# Altium footprint library YaoPCB.PCBLIB: 415 footprints (part 25 of 26)
Each footprint in its own frame and in the unit in brackets; x right, y up, seen from the top. Pads: shape width x height; smd on the part's side, far side on the other; paste and mask are expansions set on the pad; w line width, h text height; cw(c..) or ccw(c..) is an arc to the next point about the centre after c.
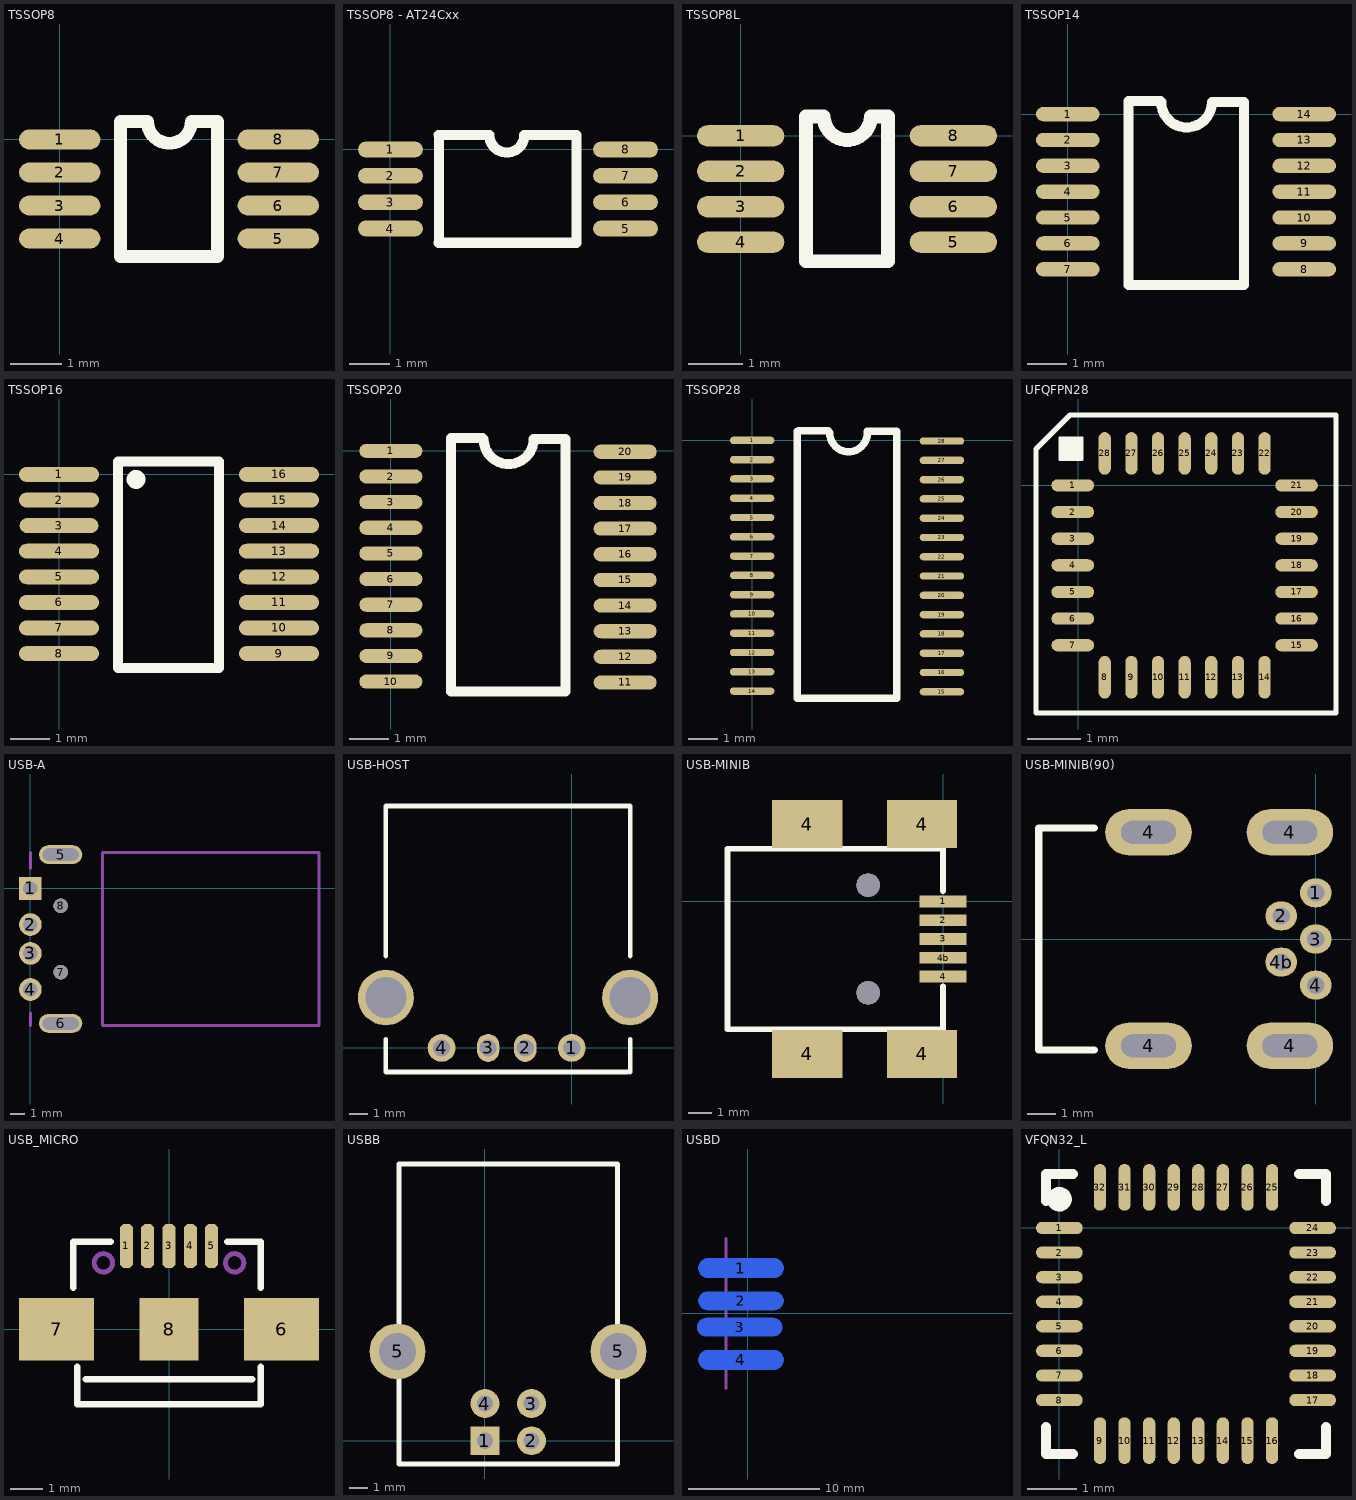
[diagram p24: the footprints below, top view; thin cyan lines are the x and y axes]

## TSSOP8 [mm]
pads (8):
  oval 1.6x0.39 smd: 1(0,0) 2(0,-0.65) 3(0,-1.3) 4(0,-1.95) 5(4.3,-1.95) 6(4.3,-1.3) 7(4.3,-0.65) 8(4.3,0)
TopOverlay:
  lines w0.254: 1.194,-2.3 3.1,-2.3 3.1,0.356 ; 1.194,0.356 1.702,0.356 ; 1.2,-2.3 1.2,0.356 ; 1.727,0.356 ccw(c2.159,0.356) 2.591,0.356 3.099,0.356

## TSSOP8 - AT24Cxx [mm]
pads (8):
  oval 1.6x0.39 smd: 1(0,0) 2(0,-0.65) 3(0,-1.3) 4(0,-1.95) 5(5.8,-1.95) 6(5.8,-1.3) 7(5.8,-0.65) 8(5.8,0)
TopOverlay:
  lines w0.254: 1.194,-2.3 4.59,-2.3 4.59,0.356 3.304,0.356 cw(c2.872,0.356) 2.44,0.356 1.194,0.356 ; 1.2,-2.3 1.2,0.356

## TSSOP8L [mm]
pads (8):
  oval 1.6x0.39 smd: 1(0,0) 2(0,-0.65) 3(0,-1.3) 4(0,-1.95) 5(3.9,-1.95) 6(3.9,-1.3) 7(3.9,-0.65) 8(3.9,0)
TopOverlay:
  lines w0.254: 1.194,-2.3 2.7,-2.3 2.7,0.356 ; 1.194,0.356 1.499,0.356 ; 1.2,-2.3 1.2,0.356 ; 1.524,0.356 ccw(c1.956,0.356) 2.388,0.356 2.692,0.356

## TSSOP14 [mm]
pads (14):
  oval 1.6x0.36 smd: 1(0,0) 2(0,-0.65) 3(0,-1.3) 4(0,-1.95) 5(0,-2.6) 6(0,-3.25) 7(0,-3.9) 8(5.94,-3.9) 9(5.94,-3.25) 10(5.94,-2.6) 11(5.94,-1.95) 12(5.94,-1.3) 13(5.94,-0.65) 14(5.94,0)
TopOverlay:
  lines w0.254: 2.325,0.325 1.524,0.325 1.524,-4.3 4.425,-4.3 4.425,0.302 3.625,0.306 ; 2.35,0.3 ccw(c2.985,0.3) 3.62,0.3

## TSSOP16 [mil]
pads (16):
  oval 80x15 smd: 1(0,0) 2(0,-25.59) 4(0,-76.77) 5(0,-102.36) 6(0,-127.95) 7(0,-153.54) 8(0,-179.13) 9(220,-179.13) 10(220,-153.54) 11(220,-127.95) 12(220,-102.36) 13(220,-76.77) 14(220,-51.18) 15(220,-25.59) 16(220,0)
  oval 78.74x15 smd: 3(0,-51.18)
TopOverlay:
  circle w10: c77,-5 r4.47
  lines w10: 59,13 59,-193.43 159.94,-193.43 ; 59.06,13 160,13 160,-193.43

## TSSOP20 [mm]
pads (20):
  oval 1.6x0.36 smd: 1(0,0) 2(0,-0.65) 3(0,-1.3) 4(0,-1.95) 5(0,-2.6) 6(0,-3.25) 7(0,-3.9) 8(0,-4.55) 9(0,-5.2) 10(0,-5.85) 11(5.94,-5.872) 12(5.94,-5.222) 13(5.94,-4.572) 14(5.94,-3.922) 15(5.94,-3.272) 16(5.94,-2.622) 17(5.94,-1.972) 18(5.94,-1.322) 19(5.94,-0.672) 20(5.94,-0.022)
TopOverlay:
  lines w0.254: 2.325,0.325 1.524,0.325 1.524,-6.096 4.425,-6.096 4.425,0.302 3.625,0.306 ; 2.35,0.3 ccw(c2.985,0.3) 3.62,0.3

## TSSOP28 [mm]
pads (28):
  oval 1.5x0.25 smd: 1(0,0) 2(0,-0.65) 3(0,-1.3) 4(0,-1.95) 5(0,-2.6) 6(0,-3.25) 7(0,-3.9) 8(0,-4.55) 9(0,-5.2) 10(0,-5.85) 11(0,-6.5) 12(0,-7.15) 13(0,-7.8) 14(0,-8.45) 15(6.4,-8.472) 16(6.4,-7.822) 17(6.4,-7.172) 18(6.4,-6.522) 19(6.4,-5.872) 20(6.4,-5.222) 21(6.4,-4.572) 22(6.4,-3.922) 23(6.4,-3.272) 24(6.4,-2.622) 25(6.4,-1.972) 26(6.4,-1.322) 27(6.4,-0.672) 28(6.4,-0.022)
TopOverlay:
  lines w0.254: 1.524,0.3 1.524,-8.696 4.876,-8.696 4.876,0.3 3.886,0.305 ; 1.575,0.33 2.565,0.33 ; 2.616,0.254 ccw(c3.251,0.254) 3.886,0.254

## UFQFPN28 [mm]
pads (28):
  oval 0.8x0.23 smd: 1(-0.1,0) 2(-0.1,-0.5) 3(-0.1,-1) 4(-0.1,-1.5) 5(-0.1,-2) 6(-0.1,-2.5) 7(-0.1,-3) 15(4.1,-3) 16(4.1,-2.5) 17(4.1,-2) 18(4.1,-1.5) 19(4.1,-1) 20(4.1,-0.5) 21(4.1,0)
  oval 0.23x0.8 smd: 8(0.5,-3.6) 9(1,-3.6) 10(1.5,-3.6) 11(2,-3.6) 12(2.5,-3.6) 13(3,-3.6) 14(3.5,-3.6) 22(3.5,0.6) 23(3,0.6) 24(2.5,0.6) 25(2,0.6) 26(1.5,0.6) 27(1,0.6) 28(0.5,0.6)
TopOverlay:
  rectangle: -0.355,0.47 0.08,0.905
  lines w0.025: -0.355,0.905 -0.355,0.47 0.08,0.47 ; -0.352,0.905 0.083,0.905 0.083,0.47
  lines w0.1: -0.79,-4.27 4.84,-4.27 4.84,1.32 -0.15,1.32 -0.79,0.68 -0.79,-4.27

## USB-A [mm]
pads (8):
  rect 1.575x1.575 hole 1: 1(0,0)
  round 1.575 hole 1: 2(0,-2.5) 3(0,-4.5) 4(0,-7)
  oval 3x1.3 hole 0.85 slot 2.5 at 0 deg: 5(2.1,2.35) 6(2.1,-9.35)
  round 1 hole 1: 7(2.1,-5.8) 8(2.1,-1.2)
Mechanical15:
  lines w0.2: 5,-9.5 20,-9.5 20,2.5 5,2.5
  lines w0.203: 0,-9.5 0,-8.636 ; 0,1.372 0,2.5 ; 5,-9.5 5,2.5

## USB-HOST [mm]
pads (6):
  round 1.5 hole 0.92: 1(0,0) 4(-7,0)
  oval 1.2x1.5 hole 0.92: 2(-2.5,0) 3(-4.5,0)
  round 3 hole 2.2: ""(-10,2.71) ""(3.14,2.71)
TopLayer:
  text "VER 2.0" at -8.222,9.314 h1.52
TopOverlay:
  lines w0.254: -10,0.47 -10,-1.29 3,-1.29 ; -10,4.94 -10,13.01 3.14,13.01 3.14,4.94 ; 3.14,-1.29 3.14,0.47

## USB-MINIB [mm]
pads (11):
  rect 2x0.5 smd: 1(0,0) 2(0,-0.8) 3(0,-1.6) 4(0,-3.2) 4b(0,-2.4)
  rect 3x2.05 smd: 4(-5.8,-6.5) 4(-5.8,3.3) 4(-0.9,-6.5) 4(-0.9,3.3)
  round 1 hole 1 unplated: ""(-3.2,-3.9) ""(-3.2,0.7)
TopOverlay:
  lines w0.254: 0,-3.615 0,-5.45 -9.2,-5.45 -9.2,2.25 0,2.25 0,0.44

## USB-MINIB(90) [mm]
pads (9):
  oval 1.1x1 hole 0.6: 1(0,1.6) 2(-1.2,0.8) 3(0,0) 4(0,-1.6) 4b(-1.2,-0.8)
  oval 3x1.6 hole 0.8 slot 1.9 at 0 deg: 4(-5.8,-3.7) 4(-5.8,3.7) 4(-0.9,-3.7) 4(-0.9,3.7)
TopOverlay:
  lines w0.254: -7.68,-3.85 -9.6,-3.85 -9.6,3.85 -7.68,3.85

## USB_MICRO [mm] "USB方孔"
height 8
pads (8):
  oct 0.4x1.35 smd: 1(-1.3,2.54) 2(-0.65,2.54) 3(0,2.54) 4(0.65,2.54) 5(1.3,2.54)
  rect 2.286x1.9 smd: 6(3.429,0) 7(-3.429,0)
  rect 1.8x1.9 smd: 8(0,0)
TopOverlay:
  lines w0.2: -2.921,1.27 -2.921,2.667 -1.778,2.667 ; -2.794,-1.143 -2.794,-2.286 2.794,-2.286 2.794,-1.143 ; -2.54,-1.524 2.54,-1.524 ; 1.778,2.667 2.794,2.667 2.794,1.27
Mechanical1:
  circle w0.15: c-2,2.023 r0.28
  circle w0.15: c2,2.023 r0.28

## USBB [mil]
pads (6):
  rect 62x62 hole 35: 1(0,0)
  round 62 hole 35: 2(100,0) 3(100,80) 4(0,80)
  round 120 hole 80: 5(-188,192) 5(287,192)
TopOverlay:
  lines w10: -185,-50 -185,190 -185,595 285,595 285,190 285,-50 -185,-50

## USBD [mm]
pads (4):
  oval 6.5x1.5 smd far side: 1(-0.51,3.46) 4(-0.51,-3.54)
  oval 6.5x1.4 smd far side: 2(-0.51,0.96) 3(-0.61,-1.04)
BottomOverlay:
  lines w0.152: 1.41,5.7 1.41,6.18 2.95,6.18 2.95,5.66 ; 1.42,-5.7 1.42,-6.24 2.96,-6.24 2.96,-5.76 ; 11.89,1.3 11.89,3.23 13.73,3.23 13.73,1.3 11.89,1.3 ; 11.9,-3.29 13.74,-3.29 13.74,-1.36 11.9,-1.36 11.9,-3.29
  lines w0.254: -1.65,-5.7 19,-5.7 19,5.7 -1.65,5.7 ; 3.9,-5.7 3.9,5.7
Mechanical15:
  lines w0.254: -1.65,-5.7 -1.65,5.7

## VFQN32_L [mm]
pads (32):
  oval 0.95x0.25 smd: 1(0,0) 2(0,-0.5) 3(0,-1) 4(0,-1.5) 5(0,-2) 6(0,-2.5) 7(0,-3) 8(0,-3.5) 17(5.15,-3.5) 18(5.15,-3) 19(5.15,-2.5) 20(5.15,-2) 21(5.15,-1.5) 22(5.15,-1) 23(5.15,-0.5) 24(5.15,0)
  oval 0.25x0.95 smd: 9(0.825,-4.325) 10(1.325,-4.325) 11(1.825,-4.325) 12(2.325,-4.325) 13(2.825,-4.325) 14(3.325,-4.325) 15(3.825,-4.325) 16(4.325,-4.325) 25(4.325,0.825) 26(3.825,0.825) 27(3.325,0.825) 28(2.825,0.825) 29(2.325,0.825) 30(1.825,0.825) 31(1.325,0.825) 32(0.825,0.825)
TopOverlay:
  circle w0.25: c0.002,0.584 r0.125
  lines w0.2: -0.275,-4.05 -0.275,-4.6 0.275,-4.6 ; -0.275,0.55 -0.275,1.1 0.275,1.1 ; 4.875,-4.6 5.425,-4.6 5.425,-4.05 ; 4.875,1.1 5.425,1.1 5.425,0.55